# EAGLE library part CORE51822B (library core51822b)
Core51822-b nRF51822 PCB
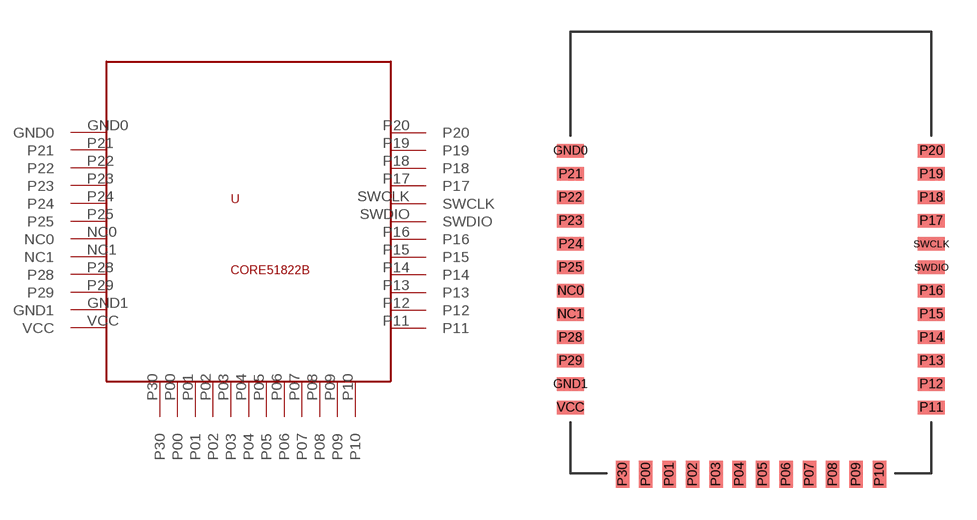
[diagram p0: symbol with the pads of CORE51822B; footprint CORE51822B]

Designator prefix -

## CORE51822B  [CORE51822B]
GND0  GND0
GND1  GND1
NC0  NC0
NC1  NC1
P00  P00
P01  P01
P02  P02
P03  P03
P04  P04
P05  P05
P06  P06
P07  P07
P08  P08
P09  P09
P10  P10
P11  P11
P12  P12
P13  P13
P14  P14
P15  P15
P16  P16
P17  P17
P18  P18
P19  P19
P20  P20
P21  P21
P22  P22
P23  P23
P24  P24
P25  P25
P28  P28
P29  P29
P30  P30
SWCLK  SWCLK
SWDIO  SWDIO
VCC  VCC

## Footprint CORE51822B (pad centres in mm)
Core51822-b nRF51822 PCB
smd 1.27 x 0.635: GND0 -8.5,4.8; GND1 -8.5,-6.2; NC0 -8.5,-1.8; NC1 -8.5,-2.9; P11 8.5,-7.3; P12 8.5,-6.2; P13 8.5,-5.1; P14 8.5,-4; P15 8.5,-2.9; P16 8.5,-1.8; P17 8.5,1.5; P18 8.5,2.6; P19 8.5,3.7; P20 8.5,4.8; P21 -8.5,3.7; P22 -8.5,2.6; P23 -8.5,1.5; P24 -8.5,0.4; P25 -8.5,-0.7; P28 -8.5,-4; P29 -8.5,-5.1; SWCLK 8.5,0.4; SWDIO 8.5,-0.7; VCC -8.5,-7.3
smd 0.635 x 1.27: P00 -4.95,-10.45; P01 -3.85,-10.45; P02 -2.75,-10.45; P03 -1.65,-10.45; P04 -0.55,-10.45; P05 0.55,-10.45; P06 1.65,-10.45; P07 2.75,-10.45; P08 3.85,-10.45; P09 4.95,-10.45; P10 6.05,-10.45; P30 -6.05,-10.45